# Altium schematic symbol library SSD1306.Schlib: 1 symbol
Pins are listed as number, name and electrical type; pins without a type are passive.

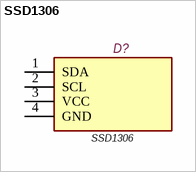
[diagram p0: symbol SSD1306]

## SSD1306
designator D?
0.91″ min OLED display screen with 128X32 resoluction and SSD1306 chipset; MPN: SSD1306; Manufacturer: *; Supplier 1: *; Supplier 2: *; PackageReference: *; Value: SSD1306
footprint SSD1306 (0.91? min OLED display screen with 128X32 resoluction and SSD1306 chipset)
pins: 1 SDA, 2 SCL, 3 VCC, 4 GND